# Altium schematic symbol library DevKit.SCHLIB: 37 symbols
Pins are listed as number, name and electrical type; pins without a type are passive.

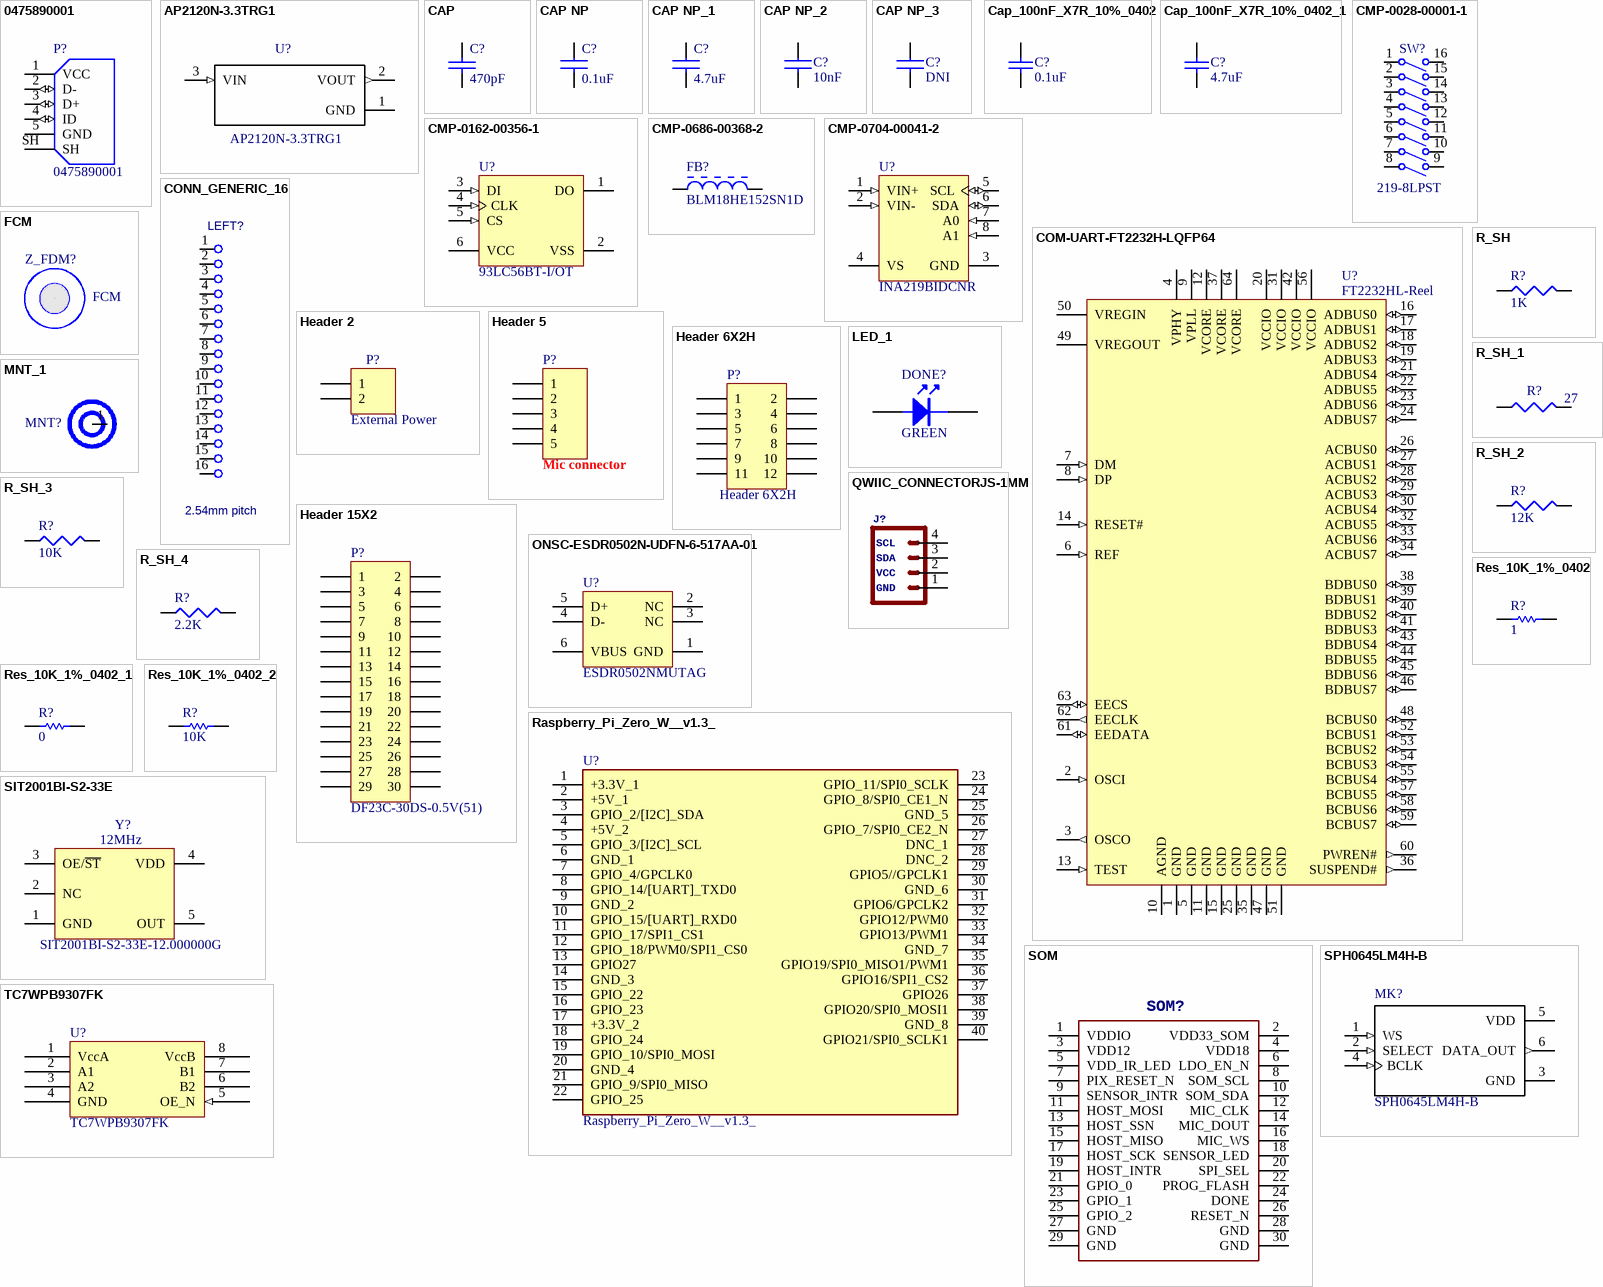
[diagram p0: symbols 0475890001 to TC7WPB9307FK]

## 0475890001
designator P?
CONN RCPT MICRO USB AB 5P SMD RA; Mfg: Molex; MPN: 0475890001; Supplier PN: WM17143CT-ND
footprint *MOLEX_0475890001
pins: 1 VCC (power), 2 D- (io), 3 D+ (io), 4 ID (io), 5 GND (power), SH (power)

## AP2120N-3.3TRG1
designator U?
IC REG LINEAR 3.3V 150MA SOT23; Mfg: Diodes Inc.; Supplier PN: AP2120N-3.3TRG1DICT-ND; MPN: AP2120N-3.3TRG1
footprint *SOT91P240X110-3N
pins: 1 GND (power), 2 VOUT (out), 3 VIN (in)

## CAP
designator C?, comment 470pF
CAP CER 470PF 50V 5% NP0 0402; MPN: GRM1555C1H471JA01D; Mfg: Murata Electronics; Supplier PN: 490-1297-1-ND
footprint CAPC1005N
footprint CAPC1608N
footprint CAPC2012N
footprint CAPC3216N
footprint CAPC1005X60N
footprint CAPC100X50X60L25N
footprint CAPC100X50X60L25N
footprint CAPC1005X60N
pins: 1, 2

## CAP NP
designator C?, comment 0.1uF
CAP CER 0.1UF 6.3V 0402; MPN: C0402C104Z4VAC7867; Mfg: KEMET; Supplier PN: 399-1043-1-ND
footprint CAPC1608N
footprint CAPC1005N
footprint CAPC1005X60N
pins: 1, 2

## CAP NP_1
designator C?, comment 4.7uF
MPN: C0402C475M7PACTU; Mfg: KEMET; Supplier PN: 399-5499-1-ND
footprint CAPC1608N
footprint CAPC1005N
footprint CAPC1005X60N
pins: 1, 2

## CAP NP_2
designator C?, comment 10nF
0.1 uF 6.3V X5R; MPN: C1005X5R0J104K050BA; Mfg: TDK Corporation; Supplier PN: 445-1266-1-ND
footprint CAPC1608N
footprint CAPC1005N
footprint CAPC1005X60N
pins: 1, 2

## CAP NP_3
designator C?, comment DNI
CAP CER 0.1UF 6.3V 0402; MPN: DNP
footprint CAPC1608N
footprint CAPC1005N
footprint CAPC1005X60N
footprint 0603C
footprint C0603
pins: 1, 2

## Cap_100nF_X7R_10%_0402
designator C?, comment 0.1uF
CAP CER 0.1UF 6.3V 0402; Manufacturer: TDK; Part #: E-CAP-003; MPN: C0402C104Z4VAC7867; Mfg: KEMET; Supplier PN: 399-1043-1-ND; Package: 0402
footprint C0402
footprint CAPC100X50X60L25N
footprint CAPC100X50X60L25N
footprint CAPC1005X60N
pins: 1, 2

## Cap_100nF_X7R_10%_0402_1
designator C?, comment 4.7uF
CAP CER 4.7UF 6.3V 0402; Manufacturer: TDK; Part #: E-CAP-003; MPN: C0402C475M7PACTU; Mfg: KEMET; Package: 0402; Supplier PN: 399-5499-1-ND
footprint C0402
footprint CAPC100X50X60L25N
footprint CAPC100X50X60L25N
footprint CAPC1005X60N
pins: 1, 2

## CMP-0028-00001-1
designator SW?, comment 219-8LPST
Switch, SPST, Surface Mount DIP, 8-way, 16-Pin DIP; Mfg: CTS Electrocomponents; ComponentLink1Description: Manufacturer URL; MPN: 219-8LPST; ComponentLink1URL: http://www.ctscorp.com/; ComponentLink2URL: http://www.ctscorp.com/components/Datasheets/219.pdf; ComponentLink2Description: Datasheet; Supplier PN: CT2198LPST-ND
footprint CTS-219-8LPST_V (DIP Switch, SMT, Body 2.54x21.79mm, Height 6.7mm, Pitch 2.54mm)
pins: 1 A1, 2 A2, 3 A3, 4 A4, 5 A5, 6 A6, 7 A7, 8 A8, 9 B8, 10 B7, 11 B6, 12 B5, 13 B4, 14 B3, 15 B2, 16 B1

## CMP-0162-00356-1
designator U?, comment 93LC56BT-I/OT
IC EEPROM 2K SPI 2MHZ SOT23-6; Mfg: Microchip Technology; MPN: 93LC56BT-I/OT; Supplier PN: 93LC56BT-I/OTCT-ND
footprint SOT-23-OT6_L (SOT23, 6-Leads, Body 2.9x1.6mm, Pitch 0.95mm, Lead Span 2.7mm, IPC High Density)
footprint SOT-23-OT6_N (SOT23, 6-Leads, Body 2.9x1.6mm, Pitch 0.95mm, Lead Span 2.7mm, IPC Medium Density)
footprint SOT-23-OT6_M (SOT23, 6-Leads, Body 2.9x1.6mm, Pitch 0.95mm, Lead Span 2.7mm, IPC Low Density)
pins: 1 DO (hiz), 2 VSS (power), 3 DI (in), 4 CLK (in), 5 CS (in), 6 VCC (power)

## CMP-0686-00368-2
designator FB?, comment BLM18HE152SN1D
FERRITE BEAD 1.5 KOHM 0603 1LN; Mfg: Murata; ComponentLink1URL: http://www.murata.com/; ComponentLink2URL: http://www.murata.com/products/catalog/pdf/c31e.pdf; ComponentLink3Description: Package Specification; ComponentLink2Description: Datasheet; ComponentLink1Description: Manufacturer URL; ComponentLink3URL: http://www.murata.com/products/catalog/pdf/c31e.pdf; MPN: BLM18HE152SN1D; Supplier PN: 490-5216-1-ND
footprint MURA-BLM18-RF-H4-CHIP-2_V (Chip Ferrite Bead, 2-Leads, Body 1.6x0.8mm, Height 0.95mm, Reflow)
footprint MURA-BLM18-F-H1-CHIP-2_V (Chip Ferrite Bead, 2-Leads, Body 1.6x0.8mm, Height 0.95mm, Flow)
pins: 1, 2

## CMP-0704-00041-2
designator U?, comment INA219BIDCNR
IC CURRENT MONITOR 1% SOT23-8; MPN: INA219AIDCNR; Mfg: Texas Instruments; ComponentLink3URL: http://www.ti.com/lit/ml/mpds099c/mpds099c.pdf; ComponentLink2URL: http://www.ti.com/general/docs/lit/getliterature.tsp?genericPartNumber=INA219&fileType=pdf; Supplier PN: 296-23770-1-ND; ComponentLink1URL: http://www.ti.com/; ComponentLink1Description: Manufacturer URL; ComponentLink3Description: Package Specification; ComponentLink2Description: Datasheet
footprint DCN0008A_M (SOT23, 8-Leads, Body 3x1.75mm, Pitch 0.65mm, IPC Low Density)
footprint DCN0008A_N (SOT23, 8-Leads, Body 3x1.75mm, Pitch 0.65mm, IPC Medium Density)
footprint DCN0008A_L (SOT23, 8-Leads, Body 3x1.75mm, Pitch 0.65mm, IPC High Density)
pins: 1 VIN+ (in) "Positive differential shunt voltage. Connect to positive side of shunt resistor.", 2 VIN- (in) "Negative differential shunt voltage. Connect to negative side of shunt resistor. Bus voltage is measured from this pin to ground.", 3 GND (power) "Ground.", 4 VS (power) "Power supply, 3V to 5.5V.", 5 SCL (io) "Serial bus clock line.", 6 SDA (io) "Serial bus data line.", 7 A0 (in) "Address pin.", 8 A1 (in) "Address pin."

## COM-UART-FT2232H-LQFP64
designator U?, comment FT2232HL-Reel
IC USB HS DUAL UART/FIFO 64-LQFP; Mfg: FTDI; ComponentLink1URL: http://www.ftdichip.com/; MPN: FT2232HL-Reel; ComponentLink2Description: Datasheet; Supplier PN: 768-1024-1-ND; ComponentLink1Description: Manufacturer URL; ComponentLink2URL: http://www.ftdichip.com/Support/Documents/DataSheets/ICs/DS_FT2232H.pdf
footprint LQFP-64_M (Thin QFP, 64-Leads, Body 10x10mm, Pitch 0.5mm, IPC Low Density)
footprint LQFP-64_L (Thin QFP, 64-Leads, Body 10x10mm, Pitch 0.5mm, IPC High Density)
footprint LQFP-64_N (Thin QFP, 64-Leads, Body 10x10mm, Pitch 0.5mm, IPC Medium Density)
footprint LQFP-64 (LQFP, 64-Leads, Body 12.0x12.0mm (max), Pitch 0.50mm, IPC Medium Density)
pins: 1 GND (power), 2 OSCI (in), 3 OSCO (out), 4 VPHY (power), 5 GND (power), 6 REF (in), 7 DM (in), 8 DP (in), 9 VPLL (power), 10 AGND (power), 11 GND (power), 12 VCORE (power), 13 TEST (in), 14 RESET# (in), 15 GND (power), 16 ADBUS0 (io), 17 ADBUS1 (io), 18 ADBUS2 (io), 19 ADBUS3 (io), 20 VCCIO (power), 21 ADBUS4 (io), 22 ADBUS5 (io), 23 ADBUS6 (io), 24 ADBUS7 (io), 25 GND (power), 26 ACBUS0 (io), 27 ACBUS1 (io), 28 ACBUS2 (io), 29 ACBUS3 (io), 30 ACBUS4 (io), 31 VCCIO (power), 32 ACBUS5 (io), 33 ACBUS6 (io), 34 ACBUS7 (io), 35 GND (power), 36 SUSPEND# (out), 37 VCORE (power), 38 BDBUS0 (io), 39 BDBUS1 (io), 40 BDBUS2 (io), 41 BDBUS3 (io), 42 VCCIO (power), 43 BDBUS4 (io), 44 BDBUS5 (io), 45 BDBUS6 (io), 46 BDBUS7 (io), 47 GND (power), 48 BCBUS0 (io), 49 VREGOUT (power), 50 VREGIN (power), 51 GND (power), 52 BCBUS1 (io), 53 BCBUS2 (io), 54 BCBUS3 (io), 55 BCBUS4 (io), 56 VCCIO (power), 57 BCBUS5 (io), 58 BCBUS6 (io), 59 BCBUS7 (io), 60 PWREN# (out), 61 EEDATA (io), 62 EECLK (out), 63 EECS (io), 64 VCORE (power)

## CONN_GENERIC_16
designator LEFT?  value 2.54mm pitch  (hidden comment: CONN_GENERIC_16)
footprint HDR2x8 (Connector; Header; 8x2 Position)
pins: 1, 2, 3, 4, 5, 6, 7, 8, 9, 10, 11, 12, 13, 14, 15, 16

## FCM
designator Z_FDM?
footprint FID100X250N
pins: 1

## Header 2
designator P?, comment External Power
Header, 2-Pin; LatestRevisionDate: 17-Jul-2002; LatestRevisionNote: Re-released for DXP Platform.; Publisher: Altium Limited
footprint HDR1X2 (Connector; Header; 2 Position)
signal-integrity model Connector
pins: 1, 2

## Header 5
designator P?, comment Mic connector
Header, 5-Pin; MPN: 61300511121; Mfg: Würth Elektronik; Supplier PN: 732-5318-ND
footprint HDR1X5 (Connector; Header; 5 Position)
signal-integrity model Connector
pins: 1, 2, 3, 4, 5

## Header 6X2H
designator P?
Header, 6-Pin, Dual row, Right Angle; MPN: 67997-212HLF; Mfg: Amphenol ICC (FCI); Supplier PN: 609-3237-ND
footprint HDR2X6H (Connector; Header; 6x2 Position; Right Angle)
signal-integrity model Connector
pins: 1, 2, 3, 4, 5, 6, 7, 8, 9, 10, 11, 12

## Header 15X2
designator P?, comment DF23C-30DS-0.5V(51)
Header, 15-Pin, Dual row; Mfg: Hirose Electric Co Ltd; Supplier PN: H11879CT-ND; MPN: DF23C-30DS-0.5V(51); ComponentLink1URL: https://www.hirose.com/product/en/download_file/key_name/DF23/category/Catalog/doc_file_id/49660/?file_category_id=4&item_id=246&is_series=1&src-supplier=Digi-Key; ComponentLink1Description: https://www.hirose.com/product/en/download_file/key_name/DF23/category/Catalog/doc_file_id/49660/?file_category_id=4&item_id=246&is_series=1&src-supplier=Digi-Key; ComponentLink2URL: http://www.farnell.com/datasheets/1910197.pdf?src-supplier=Element14; ComponentLink2Description: http://www.farnell.com/datasheets/1910197.pdf?src-supplier=Element14; ComponentLink3URL: http://www.hirose.co.jp/cataloge_hp/e68801060.pdf?src-supplier=Avnet+Europe; ComponentLink3Description: http://www.hirose.co.jp/cataloge_hp/e68801060.pdf?src-supplier=Avnet+Europe; ComponentLink4URL: http://www.mouser.com/ds/2/185/DF23_catalog-939018.pdf?src-supplier=Mouser; ComponentLink4Description: http://www.mouser.com/ds/2/185/DF23_catalog-939018.pdf?src-supplier=Mouser; ComponentLink5URL: https://www.hirose.com/product/en/download_file/key_name/DF23C-30DS-0.5V%2851%29/category/Specification%20Sheet/doc_file_id/47546/?file_category_id=9&item_id=06880302851&is_series=&src-supplier=Digi-Key; ComponentLink5Description: https://www.hirose.com/product/en/download_file/key_name/DF23C-30DS-0.5V%2851%29/category/Specification%20Sheet/doc_file_id/47546/?file_category_id=9&item_id=06880302851&is_series=&src-supplier=Digi-Key; ComponentLink6URL: http://www.hirose.co.jp/cataloge_hp/e68801060.pdf?src-supplier=Future+Electronics; ComponentLink6Description: http://www.hirose.co.jp/cataloge_hp/e68801060.pdf?src-supplier=Future+Electronics; ComponentLink7URL: http://www.hirose.co.jp/cataloge_hp/e68801060.pdf?src-supplier=Avnet; ComponentLink7Description: http://www.hirose.co.jp/cataloge_hp/e68801060.pdf?src-supplier=Avnet
signal-integrity model Connector
footprint DF23C-30DS-0.5V
footprint DF23C-30DS-0.5V
pins: 1, 2, 3, 4, 5, 6, 7, 8, 9, 10, 11, 12, 13, 14, 15, 16, 17, 18, 19, 20, 21, 22, 23, 24, 25, 26, 27, 28, 29, 30

## LED_1
designator DONE?, comment GREEN
Avago HSMG-C170; Mfg: Avago Technologies US Inc.; MPN: HSMG-C170; Supplier PN: 516-1434-1-ND
footprint LED
footprint LED2012N
pins: 1, 2

## MNT_1
designator MNT?, comment MOUNTING HOLE  (value not drawn)
Part #: NA; Notes: PCB; Emcraft #: NA
footprint MNT620-275N
footprint MNT650-320N
pins: 1 GND

## ONSC-ESDR0502N-UDFN-6-517AA-01
designator U?, comment ESDR0502NMUTAG
TVS DIODE 5.5V 6UDFN; Mfg: ON Semiconductor; ComponentLink2URL: http://www.onsemi.cn/pub_link/Collateral/ESDR0502N-D.PDF; ComponentLink3URL: http://www.onsemi.com/pub_link/Collateral/517AA.PDF; Supplier PN: ESDR0502NMUTAGOSCT-ND; ComponentLink1Description: Manufacturer URL; ComponentLink2Description: Datasheet; ComponentLink3Description: Package Specification; ComponentLink1URL: http://www.onsemi.com/; MPN: ESDR0502NMUTAG
footprint ONSC-UDFN-6-517AA-01_V (SON, 6-Leads, Body 1.2x1mm, Pitch 0.4mm)
pins: 1 GND (power), 2 NC, 3 NC, 4 D-, 5 D+, 6 VBUS (power)

## QWIIC_CONNECTORJS-1MM
designator J?
CONN HEADER SMD R/A 4POS 1MM; MPN: SM04B-SRSS-TB(LF)(SN); Mfg: JST Sales America Inc.; SDA: SDA; VCC: VCC; GND: GND; SCL: SCL; Supplier PN: 455-1804-1-ND
footprint 1X04_1MM_RA
pins: 1 (power), 2 (power), 3, 4

## R_SH
designator R?, comment 1K
RESISTOR 1K OHM 1% 0.0625W 0402; MPN: RC0402FR-071KL; Mfg: Yageo; Supplier PN: 311-1.00KLRCT-ND
footprint RESC1608N
footprint RESC1005N
footprint RESC1005X40N
pins: 1, 2

## R_SH_1
designator R?, comment 27
RESISTOR 27 OHM 1% 0.0625W 0402; MPN: RC0402JR-0727RL; Mfg: Yageo; Supplier PN: 311-27JRCT-ND
footprint RESC1608N
footprint RESC1005N
footprint RESC1005X40N
pins: 1, 2

## R_SH_2
designator R?, comment 12K
RESISTOR 12K OHM 1% 0.0625W 0402; MPN: RC0402FR-0712KL; Mfg: Yageo; Supplier PN: 311-12.0KLRCT-ND
footprint RESC1608N
footprint RESC1005N
footprint RESC1005X40N
pins: 1, 2

## R_SH_3
designator R?, comment 10K
RES SMD 10K OHM 1% 1/16W 0402; MPN: RC0402FR-0710KL; Mfg: Yageo; Supplier PN: 311-10.0KLRCT-ND; Price 100: 0.01050
footprint RESC1608N
footprint RESC1005N
footprint RESC1005X40N
pins: 1, 2

## R_SH_4
designator R?, comment 2.2K
RESISTOR 2.2K OHM 1% 0402; MPN: RC0402FR-072K2L; Mfg: Yageo; Supplier PN: 311-2.20KLRCT-ND
footprint RESC1608N
footprint RESC1005N
footprint RESC1005X40N
pins: 1, 2

## Raspberry_Pi_Zero_W__v1.3_
designator U?
CONN HDR 40POS 0.1 TIN SMD; Manufacturer: Sullins Connector Solutions; Manufacturer Product Number: NPTC202KFMS-RC; Digi-Key Part Number: S5690-ND; Arrow Part Number: Raspberry Pi Zero W (v1.3)
footprint RPI0w1.3
pins: 1 +3.3V_1, 2 +5V_1, 3 GPIO_2/[I2C]_SDA, 4 +5V_2, 5 GPIO_3/[I2C]_SCL, 6 GND_1, 7 GPIO_4/GPCLK0, 8 GPIO_14/[UART]_TXD0, 9 GND_2, 10 GPIO_15/[UART]_RXD0, 11 GPIO_17/SPI1_CS1, 12 GPIO_18/PWM0/SPI1_CS0, 13 GPIO27, 14 GND_3, 15 GPIO_22, 16 GPIO_23, 17 +3.3V_2, 18 GPIO_24, 19 GPIO_10/SPI0_MOSI, 20 GND_4, 21 GPIO_9/SPI0_MISO, 22 GPIO_25, 23 GPIO_11/SPI0_SCLK, 24 GPIO_8/SPI0_CE1_N, 25 GND_5, 26 GPIO_7/SPI0_CE2_N, 27 DNC_1, 28 DNC_2, 29 GPIO5//GPCLK1, 30 GND_6, 31 GPIO6/GPCLK2, 32 GPIO12/PWM0, 33 GPIO13/PWM1, 34 GND_7, 35 GPIO19/SPI0_MISO1/PWM1, 36 GPIO16/SPI1_CS2, 37 GPIO26, 38 GPIO20/SPI0_MOSI1, 39 GND_8, 40 GPIO21/SPI0_SCLK1

## Res_10K_1%_0402
designator R?, comment 1
RES 1 OHM 1/16W 5% 0402; MPN: RC0402JR-071RL; Mfg: Yageo; Supplier PN: 311-1.0JRCT-ND
footprint R0402
footprint RESC2012X70N (Chip Resistor, Body 2.0x1.2mm, EIA 0805, IPC Medium Density)
footprint RESC1005X40N
pins: 1, 2

## Res_10K_1%_0402_1
designator R?, comment 0
RES 0 OHM 1/16W 5% 0402; MPN: RMCF0402JT10K0; Mfg: STACKPOLE; Supplier PN: RMCF0402JT10K0CT-ND
footprint R0402
footprint RESC100X50X40L25N
pins: 1, 2

## Res_10K_1%_0402_2
designator R?, comment 10K
RES SMD 10K OHM 1% 1/16W 0402; MPN: RC0402FR-0710KL; Mfg: Yageo; Supplier PN: 311-10.0KLRCT-ND
footprint R0402
footprint RESC100X50X40L25N
footprint RESC1005X40N
pins: 1, 2

## SIT2001BI-S2-33E
designator Y?, comment 12MHz  MPN: SIT2001BI-S2-33E-12.000000G
MEMS OSC XO 12.0000MHZ H/LV-CMOS; Mfg: SiTIME; Supplier PN: 1473-SIT2001BI-S2-33E-12.000000G-ND
footprint SOT23-5 (IC REG LDO 2.5V SOT23-5)
pins: 1 GND, 2 NC, 3 OE/~{ST}, 4 VDD, 5 OUT

## SOM
designator SOM?, comment Module  (value not drawn)
MPN: DF23C-30DP-0.5V(92); Mfg: Hirose; Supplier PN: H11880CT-ND
footprint SOM-SMD
pins: 1 VDDIO (power), 2 VDD33_SOM (power), 3 VDD12 (power), 4 VDD18 (power), 5 VDD_IR_LED, 6 LDO_EN_N, 7 PIX_RESET_N, 8 SOM_SCL, 9 SENSOR_INTR, 10 SOM_SDA, 11 HOST_MOSI, 12 MIC_CLK, 13 HOST_SSN, 14 MIC_DOUT, 15 HOST_MISO, 16 MIC_WS, 17 HOST_SCK, 18 SENSOR_LED, 19 HOST_INTR, 20 SPI_SEL, 21 GPIO_0, 22 PROG_FLASH, 23 GPIO_1, 24 DONE, 25 GPIO_2, 26 RESET_N, 27 GND (power), 28 GND (power), 29 GND (power), 30 GND (power)

## SPH0645LM4H-B
designator MK?
Mic Mems Digital I2s Omni -26db; Mfg: Knowles; MPN: SPH0645LM4H-B; Supplier PN: 423-1405-1-ND
footprint *MIC_SPH0645LM4H-B
footprint Knowles_SPH0645LM4H-B_0
pins: 1 WS (in), 2 SELECT (in), 3 GND (power), 4 BCLK (in), 5 VDD (power), 6 DATA_OUT (out)

## TC7WPB9307FK
designator U?
Dual bidirectional level translator; MPN: TC7WPB9307FK,LF(CT; Mfg: Toshiba Semiconductor and Storage; Supplier PN: TC7WPB9307FKLF(CTCT-ND
footprint SSOP8-P-0.50A
pins: 1 VccA (power), 2 A1, 3 A2, 4 GND (power), 5 OE_N (in), 6 B2, 7 B1, 8 VccB (power)